# Altium footprint library photo-elements.PCBLIB: 18 footprints (part 2 of 2)
Each footprint in its own frame and in the unit in brackets; x right, y up, seen from the top. Pads: shape width x height; smd on the part's side, far side on the other; paste and mask are expansions set on the pad; w line width, h text height; cw(c..) or ccw(c..) is an arc to the next point about the centre after c.
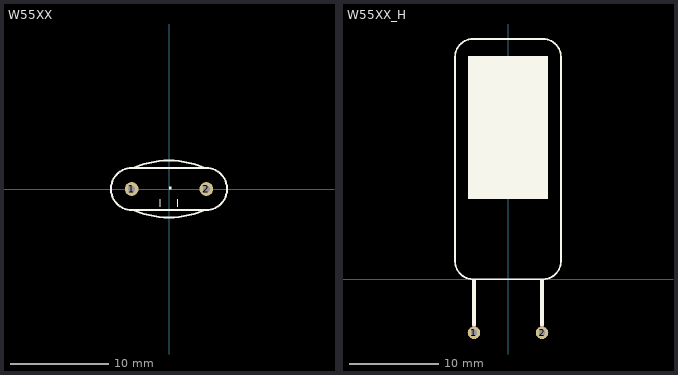
[diagram p1: the footprints below, top view; thin cyan lines are the x and y axes]

## W55XX [mm]
pads (2):
  round 1.4 hole 0.7: 1(-3.81,0) 2(3.81,0)
Top Overlay:
  region: 0,0 0.254,0 0.254,0.254 0,0.254
  region: 0,0 0.254,0 0.254,0.254 0,0.254
  lines w0.102: -0.9,-1.825 -0.9,-1.025 ; 0.9,-1.825 0.9,-1.025
  lines w0.203: -3.5,-2.2 ccw(c0,6.2) 3.5,-2.2 ; -3.5,2.2 cw(c0,-6.2) 3.5,2.2 ; -3.775,-2.15 cw(c-3.775,0) -3.775,2.15 3.775,2.15 cw(c3.775,0) 3.775,-2.15 -3.775,-2.15

## W55XX_H [mm]
pads (2):
  round 1.4 hole 0.7: 1(-3.81,-6) 2(3.81,-6)
Top Overlay:
  rectangle: -4.5,9 4.5,25
  lines w0.203: -5.925,2 -5.925,24.9 cw(c-3.925,24.9) -3.925,26.9 3.925,26.9 cw(c3.925,24.9) 5.925,24.9 5.925,2 cw(c3.925,2) 3.925,0 -3.925,0 cw(c-3.925,2) -5.925,2
  lines w0.4: -3.81,-5.08 -3.81,-0.145 ; 3.81,-5.08 3.81,-0.145
Mechanical 16:
  lines w0.4: -3.81,-6 -3.81,-5.08 ; 3.81,-6 3.81,-5.08